# Altium schematic symbol library Discrete_Passive_RCL.SchLib: 12 symbols
Pins are listed as number, name and electrical type; pins without a type are passive.

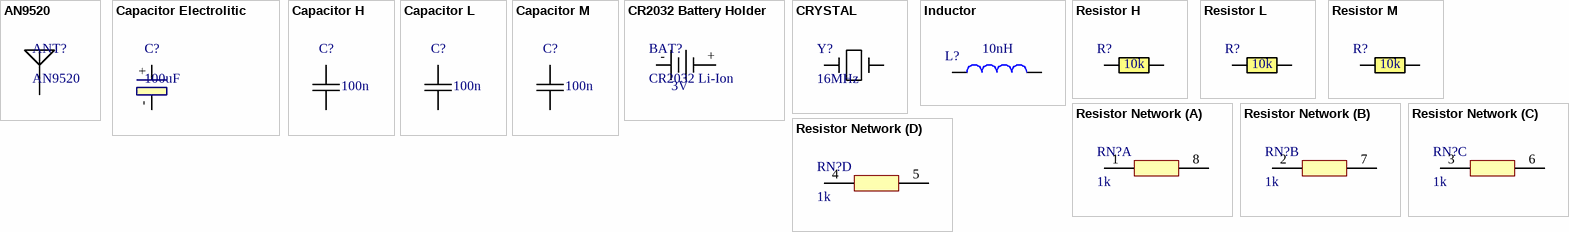
[diagram p0: symbols AN9520 to Resistor Network]

## AN9520
designator ANT?
Multilayer Chip Antenna
footprint AN9520 (Multilayer Chip Antenna for  2.4GHz Wireless Communication)
pins: 1 ANT

## Capacitor Electrolitic
designator C?, comment 100uF
Capacitor Electrolitic; Value: 100uF
footprint 10x10.5 Capacitor
footprint C_2413 (Molded Capacitor, 2-Leads, Body 6,00x3,20mm, IPC Medium Density)
simulation model Capacitor (Generic Capacitor)
footprint CAPACITOR (CAPACITOR 14x21)
footprint TC7343 (Chip Capacitor, 2-Leads, Body 7,30x4,30mm, IPC Medium Density)
pins: +, -

## Capacitor H
designator C?, comment 100n
Ceramic capacitor High density; Value: 100n
footprint CAPC0201(0603)33_L (Chip Capacitor, Body 0.6x0.3mm, Height 0.33mm, IPC High Density)
footprint CAPC0402(1005)33_L (Chip Capacitor, Body 1.0x0.5mm, Height 0.33mm, IPC High Density)
footprint CAPC0201(0603)33_L (Chip Capacitor, Body 0.6x0.3mm, Height 0.33mm, IPC High Density)
footprint CAPC0805(2012)75_L (Chip Capacitor, Body 2.0x1.2mm, Height 0.75mm, IPC High Density)
footprint CAPC1206(3216)75_L (Chip Capacitor, Body 3.2x1.6mm, Height 0.75mm, IPC High Density)
footprint CAPC1210(3225)70_L (Chip Capacitor, Body 3.2x2.5mm, Height 0.7mm, IPC High Density)
footprint CAPC1808(4520)100_L (Chip Capacitor, Body 4.5x2.0mm, Height 1mm, IPC High Density)
footprint CAPC2220(5750)165_L (Chip Capacitor, Body 5.7x5.0mm, Height 1.65mm, IPC High Density)
simulation model Model Name (Model Description)
footprint CAPC0603(1608)55_L (Chip Capacitor, Body 1.6x0.8mm, Height 0.55mm, IPC High Density)
pins: 1, 2

## Capacitor L
designator C?, comment 100n
Ceramic capacitor Low density; Value: 100n
footprint CAPC0201(0603)33_M (Chip Capacitor, Body 0.6x0.3mm, Height 0.33mm, IPC Low Density)
footprint CAPC0402(1005)33_M (Chip Capacitor, Body 1.0x0.5mm, Height 0.33mm, IPC Low Density)
footprint CAPC0201(0603)33_M (Chip Capacitor, Body 0.6x0.3mm, Height 0.33mm, IPC Low Density)
footprint CAPC0805(2012)75_M (Chip Capacitor, Body 2.0x1.2mm, Height 0.75mm, IPC Low Density)
footprint CAPC1206(3216)75_M (Chip Capacitor, Body 3.2x1.6mm, Height 0.75mm, IPC Low Density)
footprint CAPC1210(3225)70_M (Chip Capacitor, Body 3.2x2.5mm, Height 0.7mm, IPC Low Density)
footprint CAPC1808(4520)100_M (Chip Capacitor, Body 4.5x2.0mm, Height 1mm, IPC Low Density)
footprint CAPC2220(5750)165_M (Chip Capacitor, Body 5.7x5.0mm, Height 1.65mm, IPC Low Density)
simulation model Model Name (Model Description)
footprint CAPC0603(1608)55_M (Chip Capacitor, Body 1.6x0.8mm, Height 0.55mm, IPC Low Density)
pins: 1, 2

## Capacitor M
designator C?, comment 100n
Ceramic capacitor Medium density; Value: 100n
footprint CAPC0201(0603)33_N (Chip Capacitor, Body 0.6x0.3mm, Height 0.33mm, IPC Medium Density)
footprint CAPC0402(1005)33_N (Chip Capacitor, Body 1.0x0.5mm, Height 0.33mm, IPC Medium Density)
footprint CAPC0201(0603)33_N (Chip Capacitor, Body 0.6x0.3mm, Height 0.33mm, IPC Medium Density)
footprint CAPC0805(2012)75_N (Chip Capacitor, Body 2.0x1.2mm, Height 0.75mm, IPC Medium Density)
footprint CAPC1206(3216)75_N (Chip Capacitor, Body 3.2x1.6mm, Height 0.75mm, IPC Medium Density)
footprint CAPC1210(3225)70_N (Chip Capacitor, Body 3.2x2.5mm, Height 0.7mm, IPC Medium Density)
footprint CAPC1808(4520)100_N (Chip Capacitor, Body 4.5x2.0mm, Height 1mm, IPC Medium Density)
footprint CAPC2220(5750)165_N (Chip Capacitor, Body 5.7x5.0mm, Height 1.65mm, IPC Medium Density)
simulation model Model Name (Model Description)
footprint CAPC0603(1608)55_N (Chip Capacitor, Body 1.6x0.8mm, Height 0.55mm, IPC Medium Density)
pins: 1, 2

## CR2032 Battery Holder
designator BAT?, comment CR2032 Li-Ion  value 3V
CR2032 Li-Ion battery
footprint CR2032 Holder; pin to pad +>2 ->1
simulation model Model Name (Model Description)
pins: +, -

## CRYSTAL
designator Y?, comment 16MHz
Value: 16MHz
footprint 3225 (DFN, 4-Leads, Body 2,50x3,20mm, Pitch 2,20mm, IPC Medium Density)
footprint CM200S (SOT143, 4-Leads, Body 8,00x5,10mm, Pitch 5,50mm, IPC Medium Density); pin to pad 3>4 4>3
footprint HC49 Crystal
pins: 1, 2 hidden to GND, 3, 4 hidden to GND

## Inductor
designator L?, comment 10nH
Value: 10nH
footprint C_0603 (Chip Capacitor; Body 1.6 x 0.8 mm (LxW typ))
footprint C_0805 (Capacitor Pattern)
footprint C_1206
footprint C_1210
footprint CD75 (inductor)
footprint IND 5mm
footprint WE-TPC 1038 (Precision Wire Wound Inductor, 2-Leads, Body 10,30x10,30mm, IPC Medium Density)
simulation model Model Name (Model Description)
footprint CAPC0402(1005)33_L (Chip Capacitor, Body 1.0x0.5mm, Height 0.33mm, IPC High Density)
footprint Model Name (Footprint not found)
pins: 1, 2

## Resistor H
designator R?, comment 10k
Resistor High Density; Value: 10k
footprint RESC2512(6432)_L (Chip Resistor, Body 6.4x3.2mm, IPC High Density)
footprint RESC2010(5025)_L (Chip Resistor, Body 5.0x2.5mm, IPC High Density)
footprint RESC1812(4532)_L (Chip Resistor, Body 4.5x3.2mm, IPC High Density)
footprint RESC1210(3225)_L (Chip Resistor, Body 3.2x2.5mm, IPC High Density)
footprint RESC1206(3216)_L (Chip Resistor, Body 3.2x1.6mm, IPC High Density)
footprint RESC0805(2012)_L (Chip Resistor, Body 2.0x1.3mm, IPC High Density)
footprint RESC0603(1608)_L (Chip Resistor, Body 1.6x0.8mm, IPC High Density)
footprint RESC0402(1005)_L (Chip Resistor, Body 1.0x0.5mm, IPC High Density)
footprint RESC0201(0603)_L (Chip Resistor, Body 0.6x0.3mm, IPC High Density)
simulation model Model Name (Model Description)
pins: 1, 2

## Resistor L
designator R?, comment 10k
Resistor Low Density; Value: 10k
footprint RESC2512(6432)_M (Chip Resistor, Body 6.4x3.2mm, IPC Low Density)
footprint RESC2010(5025)_M (Chip Resistor, Body 5.0x2.5mm, IPC Low Density)
footprint RESC1812(4532)_M (Chip Resistor, Body 4.5x3.2mm, IPC Low Density)
footprint RESC1210(3225)_M (Chip Resistor, Body 3.2x2.5mm, IPC Low Density)
footprint RESC1206(3216)_M (Chip Resistor, Body 3.2x1.6mm, IPC Low Density)
footprint RESC0805(2012)_M (Chip Resistor, Body 2.0x1.3mm, IPC Low Density)
footprint RESC0603(1608)_M (Chip Resistor, Body 1.6x0.8mm, IPC Low Density)
footprint RESC0402(1005)_M (Chip Resistor, Body 1.0x0.5mm, IPC Low Density)
footprint RESC0201(0603)_M (Chip Resistor, Body 0.6x0.3mm, IPC Low Density)
simulation model Model Name (Model Description)
pins: 1, 2

## Resistor M
designator R?, comment 10k
Resistor Medium Density; Value: 10k
footprint RESC2512(6432)_N (Chip Resistor, Body 6.4x3.2mm, IPC Medium Density)
footprint RESC2010(5025)_N (Chip Resistor, Body 5.0x2.5mm, IPC Medium Density)
footprint RESC1812(4532)_N (Chip Resistor, Body 4.5x3.2mm, IPC Medium Density)
footprint RESC1210(3225)_N (Chip Resistor, Body 3.2x2.5mm, IPC Medium Density)
footprint RESC1206(3216)_N (Chip Resistor, Body 3.2x1.6mm, IPC Medium Density)
footprint RESC0805(2012)_N (Chip Resistor, Body 2.0x1.3mm, IPC Medium Density)
footprint RESC0603(1608)_N (Chip Resistor, Body 1.6x0.8mm, IPC Medium Density)
footprint RESC0402(1005)_N (Chip Resistor, Body 1.0x0.5mm, IPC Medium Density)
footprint RESC0201(0603)_N (Chip Resistor, Body 0.6x0.3mm, IPC Medium Density)
simulation model Model Name (Model Description)
pins: 1, 2

## Resistor Network
designator RN?, comment 1k
Value: 1k
footprint 1206 Resistor Network (Chip Array, Concave, 8-Leads, Pitch 0,80mm,  Body 3,20x1,60mm,  IPC Medium Density)
simulation model Model Name (Model Description)
part A pins: 1, 8
part B pins: 2, 7
part C pins: 3, 6
part D pins: 4, 5